# EAGLE library part LTC4418 (library LTM4607)
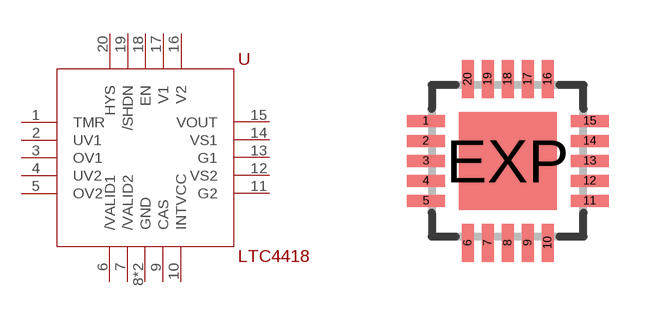
[diagram p6: symbol with the pads of QFN20; footprint QFN20]

Designator prefix U

## LTC4418  [QFN20]
1  TMR
2  UV1
3  OV1
4  UV2
5  OV2
6  /VALID1
7  /VALID2
8  GND
9  CAS
10  INTVCC
11  G2
12  VS2
13  G1
14  VS1
15  VOUT
16  V2
17  V1
18  EN
19  /SHDN
20  HYS
EXP  GND

## Footprint QFN20 (pad centres in mm)
ES Package, 20-Contact QFN with Exposed Thermal Pad Data sheet <http://www.allegromicro.com/en/Products/Part_Numbers/3906/3906.pdf>
smd 0.95 x 0.3: 1 -2.05,1; 2 -2.05,0.5; 3 -2.05,0; 4 -2.05,-0.5; 5 -2.05,-1; 11 2.05,-1; 12 2.05,-0.5; 13 2.05,0; 14 2.05,0.5; 15 2.05,1
smd 0.3 x 0.95: 6 -1,-2.05; 7 -0.5,-2.05; 8 0,-2.05; 9 0.5,-2.05; 10 1,-2.05; 16 1,2.05; 17 0.5,2.05; 18 0,2.05; 19 -0.5,2.05; 20 -1,2.05
smd 2.45 x 2.45: EXP 0,0